# Altium schematic symbol library MOSFET,P Ch,30V,135A.Schlib: 1 symbol
Pins are listed as number, name and electrical type; pins without a type are passive.

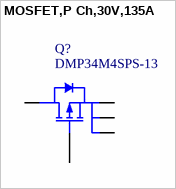
[diagram p0: symbol MOSFET,P Ch,30V,135A]

## MOSFET,P Ch,30V,135A
designator Q?, comment DMP34M4SPS-13
P-Channel 30 V 135A (Tc) 1.5W Surface Mount PowerDI5060-8
pins: 1 S, 2 S, 3 S, 4 G, 5 D